# EAGLE library part BREAKOUT_SD (library Breakout Micro SD)
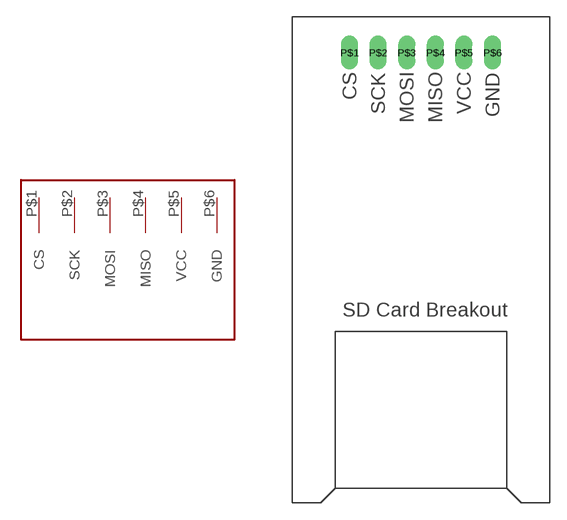
[diagram p0: symbol with the pads of BREAKOUT_SD; footprint BREAKOUT_SD]

Designator prefix -

## BREAKOUT_SD  [BREAKOUT_SD]
P$1  CS
P$2  SCK
P$3  MOSI
P$4  MISO
P$5  VCC
P$6  GND

## Footprint BREAKOUT_SD (pad centres in mm)
drill 1 long: P$1 5.08,40.005; P$2 7.62,40.005; P$3 10.16,40.005; P$4 12.7,40.005; P$5 15.24,40.005; P$6 17.78,40.005